# Altium schematic symbol library 09564527612.SchLib: 1 symbol
Pins are listed as number, name and electrical type; pins without a type are passive.

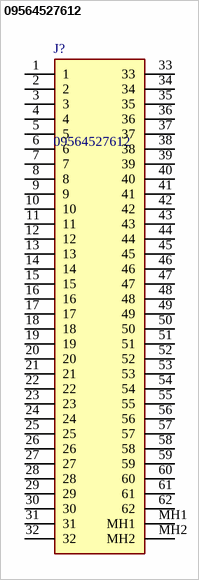
[diagram p0: symbol 09564527612]

## 09564527612
designator J?
High Density D-Sub 62pin angled female with board locks, PL3, 4-40UNC threading; Manufacturer_Name: HARTING; Geometry.Height: 12.55mm; Manufacturer_Part_Number: 09564527612; Mouser Part Number: 617-09-56-452-7612; Mouser Price/Stock: https://www.mouser.co.uk/ProductDetail/HARTING/09564527612?qs=qa49y27LPCF1lnBrRUFxoA%3D%3D; Arrow Part Number: 09564527612; Arrow Price/Stock: https://www.arrow.com/en/products/09564527612/harting?region=nac; Datasheet Link: https://b2b.harting.com/files/download/PRD/PDF_DS/PDF_DS_09564527612_EN.pdf
footprint 09564527612
pins: 1, 2, 3, 4, 5, 6, 7, 8, 9, 10, 11, 12, 13, 14, 15, 16, 17, 18, 19, 20, 21, 22, 23, 24, 25, 26, 27, 28, 29, 30, 31, 32, 33, 34, 35, 36, 37, 38, 39, 40, 41, 42, 43, 44, 45, 46, 47, 48, 49, 50, 51, 52, 53, 54, 55, 56, 57, 58, 59, 60, 61, 62, MH1, MH2